# EAGLE library part DAC084S085 (library synth)
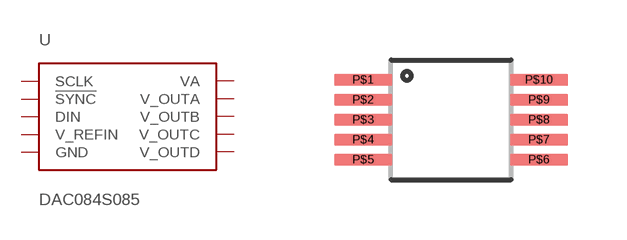
[diagram p5: symbol with the pads of VSSOP10; footprint VSSOP10]

Designator prefix -

## DAC084S085  [VSSOP10]
P$1  VA
P$2  V_OUTA
P$3  V_OUTB
P$4  V_OUTC
P$5  V_OUTD
P$6  GND
P$7  V_REFIN
P$8  DIN
P$9  !SYNC
P$10  SCLK

## Footprint VSSOP10 (pad centres in mm)
smd 1.45 x 0.3: P$1 -2.2,1; P$2 -2.2,0.5; P$3 -2.2,0; P$4 -2.2,-0.5; P$5 -2.2,-1; P$6 2.2,-1; P$7 2.2,-0.5; P$8 2.2,0; P$9 2.2,0.5; P$10 2.2,1